# Altium schematic symbol library CAP_10ufar_805pkg.SchLib: 1 symbol
Pins are listed as number, name and electrical type; pins without a type are passive.

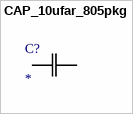
[diagram p0: symbol CAP_10ufar_805pkg]

## CAP_10ufar_805pkg
designator C?
No Description Available; Mfr_Name: Samsung
footprint CAP_CL21_SAM
pins: 1, 2